# Altium integrated library IR Discrete MOSFET - Half Bridge.IntLib: 36 symbols
Pins are listed as number, name and electrical type; pins without a type are passive.

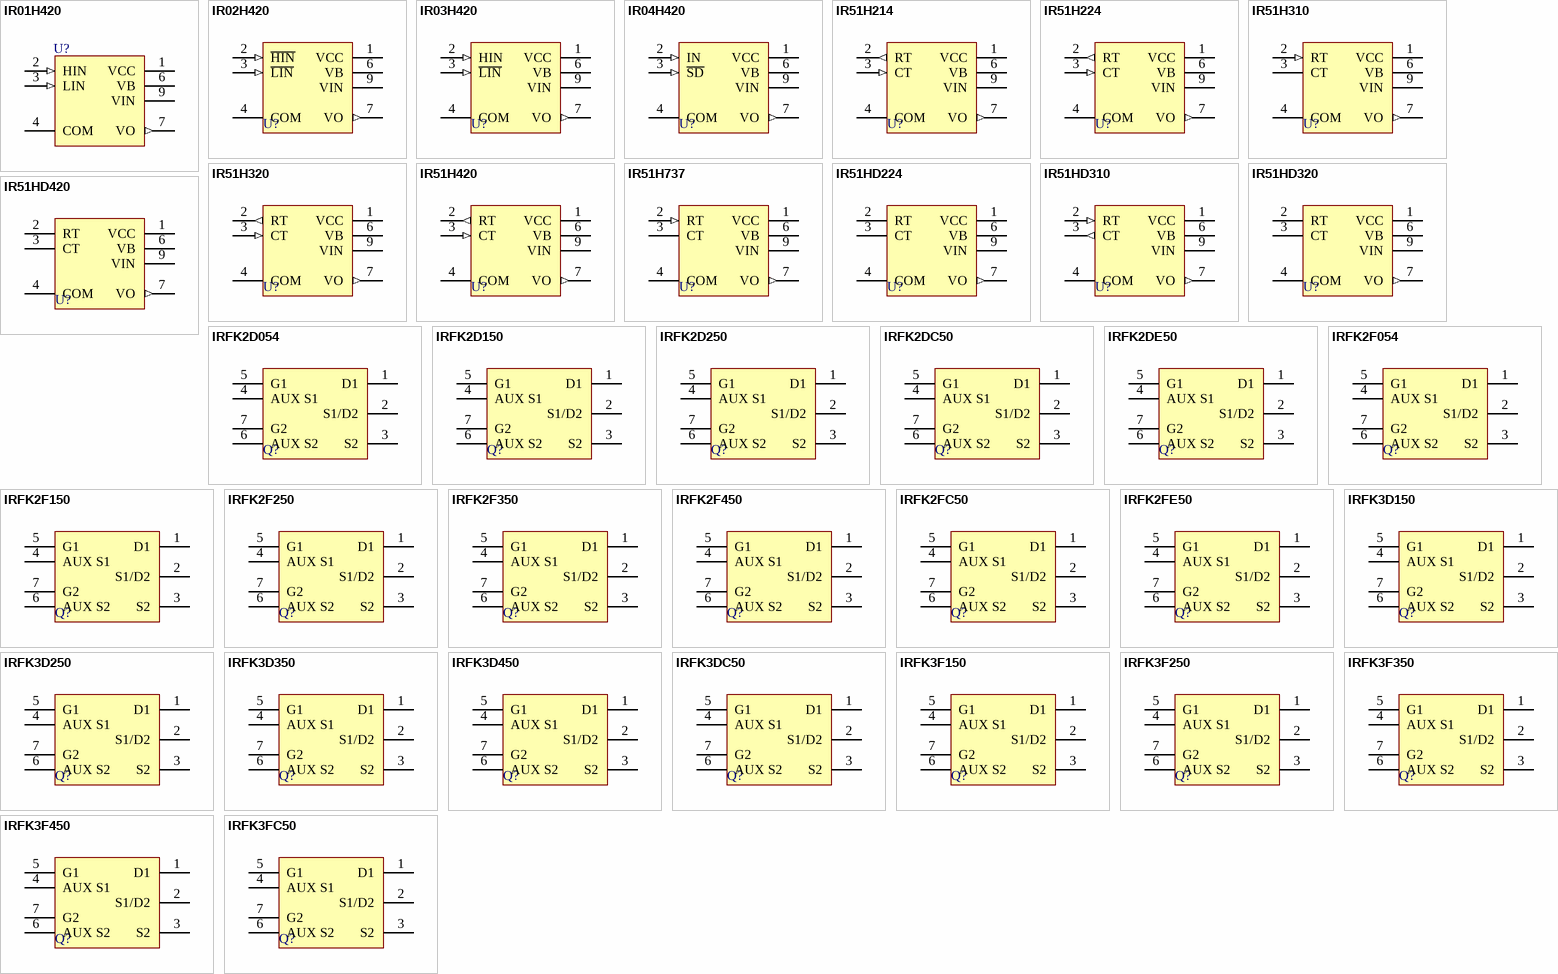
[diagram p0: symbols IR01H420 to IRFK3FC50]

## IR01H420
designator U?
High Voltage Half-Bridge; Note: Pins 5 and 8 do not physically exist.; Published: 8-Jun-2000; LatestRevisionDate: 17-Jul-2002; LatestRevisionNote: Re-released for DXP Platform.; DatasheetVersion: Mar-1996; PackageReference: SIP9; Publisher: Altium Limited; PackageDescription: SIP; 9 Leads (2 Absent); Body 22.9 x 3.4 mm (LxW typ); Pitch 2.54 mm; ComponentLink1Description: Manufacturer Link; ComponentLink1URL: http://www.irf.com/
footprint SIP9 (SIP; 9 Leads (2 Absent); Body 22.9 x 3.4 mm (LxW typ); Pitch 2.54 mm)
pins: 1 VCC (power), 2 HIN (in), 3 LIN (in), 4 COM (power), 6 VB (power), 7 VO (out), 9 VIN (power)

## IR02H420
designator U?
High Voltage Half-Bridge; Note: Pins 5 and 8 do not physically exist.; Published: 8-Jun-2000; LatestRevisionDate: 17-Jul-2002; LatestRevisionNote: Re-released for DXP Platform.; DatasheetVersion: Mar-1996; PackageReference: SIP9; Publisher: Altium Limited; PackageDescription: SIP; 9 Leads (2 Absent); Body 22.9 x 3.4 mm (LxW typ); Pitch 2.54 mm; ComponentLink1Description: Manufacturer Link; ComponentLink1URL: http://www.irf.com/
footprint SIP9 (SIP; 9 Leads (2 Absent); Body 22.9 x 3.4 mm (LxW typ); Pitch 2.54 mm)
pins: 1 VCC (power), 2 ~{HIN} (in), 3 ~{LIN} (in), 4 COM (power), 6 VB (power), 7 VO (out), 9 VIN (power)

## IR03H420
designator U?
High Voltage Half-Bridge; Note: Pins 5 and 8 do not physically exist.; Published: 8-Jun-2000; LatestRevisionDate: 17-Jul-2002; LatestRevisionNote: Re-released for DXP Platform.; DatasheetVersion: Mar-1996; PackageReference: SIP9; Publisher: Altium Limited; PackageDescription: SIP; 9 Leads (2 Absent); Body 22.9 x 3.4 mm (LxW typ); Pitch 2.54 mm; ComponentLink1Description: Manufacturer Link; ComponentLink1URL: http://www.irf.com/
footprint SIP9 (SIP; 9 Leads (2 Absent); Body 22.9 x 3.4 mm (LxW typ); Pitch 2.54 mm)
pins: 1 VCC (power), 2 HIN (in), 3 ~{LIN} (in), 4 COM (power), 6 VB (power), 7 VO (out), 9 VIN (power)

## IR04H420
designator U?
High Voltage Half-Bridge; Note: Pins 5 and 8 do not physically exist.; Published: 8-Jun-2000; LatestRevisionDate: 17-Jul-2002; LatestRevisionNote: Re-released for DXP Platform.; DatasheetVersion: Mar-1996; PackageReference: SIP9; Publisher: Altium Limited; PackageDescription: SIP; 9 Leads (2 Absent); Body 22.9 x 3.4 mm (LxW typ); Pitch 2.54 mm; ComponentLink1Description: Manufacturer Link; ComponentLink1URL: http://www.irf.com/
footprint SIP9 (SIP; 9 Leads (2 Absent); Body 22.9 x 3.4 mm (LxW typ); Pitch 2.54 mm)
pins: 1 VCC (power), 2 IN (in), 3 ~{SD} (in), 4 COM (power), 6 VB (power), 7 VO (out), 9 VIN (power)

## IR51H214
designator U?
Self-Oscillating Half-Bridge; Note: Pins 5 and 8 do not physically exist.; Published: 8-Jun-2000; LatestRevisionDate: 17-Jul-2002; LatestRevisionNote: Re-released for DXP Platform.; DatasheetVersion: Jun-1994; PackageReference: SIP9; Publisher: Altium Limited; PackageDescription: SIP; 9 Leads (2 Absent); Body 22.9 x 3.4 mm (LxW typ); Pitch 2.54 mm; ComponentLink1Description: Manufacturer Link; ComponentLink1URL: http://www.irf.com/
footprint SIP9 (SIP; 9 Leads (2 Absent); Body 22.9 x 3.4 mm (LxW typ); Pitch 2.54 mm)
pins: 1 VCC (power), 2 RT (out), 3 CT (in), 4 COM (power), 6 VB (power), 7 VO (out), 9 VIN (power)

## IR51H224
designator U?
Self-Oscillating Half-Bridge; Note: Pins 5 and 8 do not physically exist.; Published: 8-Jun-2000; LatestRevisionDate: 17-Jul-2002; LatestRevisionNote: Re-released for DXP Platform.; DatasheetVersion: Mar-1999; PackageReference: SIP9; Publisher: Altium Limited; PackageDescription: SIP; 9 Leads (2 Absent); Body 22.9 x 3.4 mm (LxW typ); Pitch 2.54 mm; ComponentLink1Description: Manufacturer Link; ComponentLink1URL: http://www.irf.com/; ComponentLink2Description: Datasheet; ComponentLink2URL: http://www.irf.com/product-info/datasheets/data/ir51h224.pdf
footprint SIP9 (SIP; 9 Leads (2 Absent); Body 22.9 x 3.4 mm (LxW typ); Pitch 2.54 mm)
pins: 1 VCC (power), 2 RT (out), 3 CT (in), 4 COM (power), 6 VB (power), 7 VO (out), 9 VIN (power)

## IR51H310
designator U?
Self-Oscillating Half-Bridge; Note: Pins 5 and 8 do not physically exist.; Published: 8-Jun-2000; LatestRevisionDate: 17-Jul-2002; LatestRevisionNote: Re-released for DXP Platform.; DatasheetVersion: Jun-1994; PackageReference: SIP9; Publisher: Altium Limited; PackageDescription: SIP; 9 Leads (2 Absent); Body 22.9 x 3.4 mm (LxW typ); Pitch 2.54 mm; ComponentLink1Description: Manufacturer Link; ComponentLink1URL: http://www.irf.com/; ComponentLink2Description: Datasheet; ComponentLink2URL: http://www.irf.com/product-info/datasheets/data/ir51h214.pdf
footprint SIP9 (SIP; 9 Leads (2 Absent); Body 22.9 x 3.4 mm (LxW typ); Pitch 2.54 mm)
pins: 1 VCC (power), 2 RT (in), 3 CT (power), 4 COM (power), 6 VB (power), 7 VO (out), 9 VIN (power)

## IR51H320
designator U?
Self-Oscillating Half-Bridge; Note: Pins 5 and 8 do not physically exist.; Published: 8-Jun-2000; LatestRevisionDate: 17-Jul-2002; LatestRevisionNote: Re-released for DXP Platform.; DatasheetVersion: Mar-1999; PackageReference: SIP9; Publisher: Altium Limited; PackageDescription: SIP; 9 Leads (2 Absent); Body 22.9 x 3.4 mm (LxW typ); Pitch 2.54 mm; ComponentLink1Description: Manufacturer Link; ComponentLink1URL: http://www.irf.com/; ComponentLink2Description: Datasheet; ComponentLink2URL: http://www.irf.com/product-info/datasheets/data/ir51h224.pdf
footprint SIP9 (SIP; 9 Leads (2 Absent); Body 22.9 x 3.4 mm (LxW typ); Pitch 2.54 mm)
pins: 1 VCC (power), 2 RT (out), 3 CT (in), 4 COM (power), 6 VB (power), 7 VO (out), 9 VIN (power)

## IR51H420
designator U?
Self-Oscillating Half-Bridge; Note: Pins 5 and 8 do not physically exist.; Published: 8-Jun-2000; LatestRevisionDate: 17-Jul-2002; LatestRevisionNote: Re-released for DXP Platform.; DatasheetVersion: Mar-1999; PackageReference: SIP9; Publisher: Altium Limited; PackageDescription: SIP; 9 Leads (2 Absent); Body 22.9 x 3.4 mm (LxW typ); Pitch 2.54 mm; ComponentLink1Description: Manufacturer Link; ComponentLink1URL: http://www.irf.com/; ComponentLink2Description: Datasheet; ComponentLink2URL: http://www.irf.com/product-info/datasheets/data/ir51h224.pdf
footprint SIP9 (SIP; 9 Leads (2 Absent); Body 22.9 x 3.4 mm (LxW typ); Pitch 2.54 mm)
pins: 1 VCC (power), 2 RT (out), 3 CT (in), 4 COM (power), 6 VB (power), 7 VO (out), 9 VIN (power)

## IR51H737
designator U?
Self-Oscillating Half-Bridge; Note: Pins 5 and 8 do not physically exist.; Published: 8-Jun-2000; LatestRevisionDate: 17-Jul-2002; LatestRevisionNote: Re-released for DXP Platform.; DatasheetVersion: Aug-1995; PackageReference: SIP9; Publisher: Altium Limited; PackageDescription: SIP; 9 Leads (2 Absent); Body 22.9 x 3.4 mm (LxW typ); Pitch 2.54 mm; ComponentLink1Description: Manufacturer Link; ComponentLink1URL: http://www.irf.com/
footprint SIP9 (SIP; 9 Leads (2 Absent); Body 22.9 x 3.4 mm (LxW typ); Pitch 2.54 mm)
pins: 1 VCC (power), 2 RT (in), 3 CT (power), 4 COM (power), 6 VB (power), 7 VO (out), 9 VIN (power)

## IR51HD224
designator U?
Self-Oscillating Half-Bridge; Note: Pins 5 and 8 do not physically exist.; Published: 8-Jun-2000; LatestRevisionDate: 17-Jul-2002; LatestRevisionNote: Re-released for DXP Platform.; DatasheetVersion: Mar-1999; PackageReference: SIP9; Publisher: Altium Limited; PackageDescription: SIP; 9 Leads (2 Absent); Body 22.9 x 3.4 mm (LxW typ); Pitch 2.54 mm; ComponentLink1Description: Manufacturer Link; ComponentLink1URL: http://www.irf.com/; ComponentLink2Description: Datasheet; ComponentLink2URL: http://www.irf.com/product-info/datasheets/data/ir51h224.pdf
footprint SIP9 (SIP; 9 Leads (2 Absent); Body 22.9 x 3.4 mm (LxW typ); Pitch 2.54 mm)
pins: 1 VCC (power), 2 RT, 3 CT, 4 COM (power), 6 VB (power), 7 VO (out), 9 VIN (power)

## IR51HD310
designator U?
Self-Oscillating Half-Bridge; Note: Pins 5 and 8 do not physically exist.; Published: 8-Jun-2000; LatestRevisionDate: 17-Jul-2002; LatestRevisionNote: Re-released for DXP Platform.; DatasheetVersion: PD-6.060D; PackageReference: SIP9; Publisher: Altium Limited; PackageDescription: SIP; 9 Leads (2 Absent); Body 22.9 x 3.4 mm (LxW typ); Pitch 2.54 mm; ComponentLink1Description: Manufacturer Link; ComponentLink1URL: http://www.irf.com/
footprint SIP9 (SIP; 9 Leads (2 Absent); Body 22.9 x 3.4 mm (LxW typ); Pitch 2.54 mm)
pins: 1 VCC (power), 2 RT (in), 3 CT (out), 4 COM (power), 6 VB (power), 7 VO (out), 9 VIN (power)

## IR51HD320
designator U?
Self-Oscillating Half-Bridge; Note: Pins 5 and 8 do not physically exist.; Published: 8-Jun-2000; LatestRevisionDate: 17-Jul-2002; LatestRevisionNote: Re-released for DXP Platform.; DatasheetVersion: Mar-1999; PackageReference: SIP9; Publisher: Altium Limited; PackageDescription: SIP; 9 Leads (2 Absent); Body 22.9 x 3.4 mm (LxW typ); Pitch 2.54 mm; ComponentLink1Description: Manufacturer Link; ComponentLink1URL: http://www.irf.com/; ComponentLink2Description: Datasheet; ComponentLink2URL: http://www.irf.com/product-info/datasheets/data/ir51h224.pdf
footprint SIP9 (SIP; 9 Leads (2 Absent); Body 22.9 x 3.4 mm (LxW typ); Pitch 2.54 mm)
pins: 1 VCC (power), 2 RT, 3 CT, 4 COM (power), 6 VB (power), 7 VO (out), 9 VIN

## IR51HD420
designator U?
Self-Oscillating Half-Bridge; Note: Pins 5 and 8 do not physically exist.; Published: 8-Jun-2000; LatestRevisionDate: 17-Jul-2002; LatestRevisionNote: Re-released for DXP Platform.; DatasheetVersion: Mar-1999; PackageReference: SIP9; Publisher: Altium Limited; PackageDescription: SIP; 9 Leads (2 Absent); Body 22.9 x 3.4 mm (LxW typ); Pitch 2.54 mm; ComponentLink1Description: Manufacturer Link; ComponentLink1URL: http://www.irf.com/; ComponentLink2Description: Datasheet; ComponentLink2URL: http://www.irf.com/product-info/datasheets/data/ir51h224.pdf
footprint SIP9 (SIP; 9 Leads (2 Absent); Body 22.9 x 3.4 mm (LxW typ); Pitch 2.54 mm)
pins: 1 VCC (power), 2 RT, 3 CT, 4 COM (power), 6 VB (power), 7 VO (out), 9 VIN

## IRFK2D054
designator Q?
Isolated Base N-Channel Power HEX-Pak Assembly - Half Bridge Configuration; Published: 8-Jun-2000; LatestRevisionDate: 17-Jul-2002; LatestRevisionNote: Re-released for DXP Platform.; DatasheetVersion: E2790; PackageReference: TO-240_7; Publisher: Altium Limited; PackageDescription: Power Module/TO-240-AA; 3 Screw & 4 Quick-Connect Terminals; Body 92 x 20 x 37 mm (LxWxH); ComponentLink1Description: Manufacturer Link; ComponentLink1URL: http://www.irf.com/
footprint TO-240_7 (Power Module/TO-240-AA; 3 Screw & 4 Quick-Connect Terminals; Body 92 x 20 x 37 mm (LxWxH))
simulation model IRFK2D054 (SUBCKT)
pins: 1 D1, 2 S1/D2, 3 S2, 4 AUX S1, 5 G1, 6 AUX S2, 7 G2

## IRFK2D150
designator Q?
Isolated Base N-Channel Power HEX-Pak Assembly - Half Bridge Configuration; Published: 8-Jun-2000; LatestRevisionDate: 17-Jul-2002; LatestRevisionNote: Re-released for DXP Platform.; DatasheetVersion: E2791; PackageReference: TO-240_7; Publisher: Altium Limited; PackageDescription: Power Module/TO-240-AA; 3 Screw & 4 Quick-Connect Terminals; Body 92 x 20 x 37 mm (LxWxH); ComponentLink1Description: Manufacturer Link; ComponentLink1URL: http://www.irf.com/
footprint TO-240_7 (Power Module/TO-240-AA; 3 Screw & 4 Quick-Connect Terminals; Body 92 x 20 x 37 mm (LxWxH))
simulation model IRFK2D150 (SUBCKT)
pins: 1 D1, 2 S1/D2, 3 S2, 4 AUX S1, 5 G1, 6 AUX S2, 7 G2

## IRFK2D250
designator Q?
Isolated Base N-Channel Power HEX-Pak Assembly - Half Bridge Configuration; Published: 8-Jun-2000; LatestRevisionDate: 17-Jul-2002; LatestRevisionNote: Re-released for DXP Platform.; DatasheetVersion: E2792; PackageReference: TO-240_7; Publisher: Altium Limited; PackageDescription: Power Module/TO-240-AA; 3 Screw & 4 Quick-Connect Terminals; Body 92 x 20 x 37 mm (LxWxH); ComponentLink1Description: Manufacturer Link; ComponentLink1URL: http://www.irf.com/
footprint TO-240_7 (Power Module/TO-240-AA; 3 Screw & 4 Quick-Connect Terminals; Body 92 x 20 x 37 mm (LxWxH))
simulation model IRFK2D250 (SUBCKT)
pins: 1 D1, 2 S1/D2, 3 S2, 4 AUX S1, 5 G1, 6 AUX S2, 7 G2

## IRFK2DC50
designator Q?
Isolated Base N-Channel Power HEX-Pak Assembly - Half Bridge Configuration; Published: 8-Jun-2000; LatestRevisionDate: 17-Jul-2002; LatestRevisionNote: Re-released for DXP Platform.; DatasheetVersion: E2795; PackageReference: TO-240_7; Publisher: Altium Limited; PackageDescription: Power Module/TO-240-AA; 3 Screw & 4 Quick-Connect Terminals; Body 92 x 20 x 37 mm (LxWxH); ComponentLink1Description: Manufacturer Link; ComponentLink1URL: http://www.irf.com/
footprint TO-240_7 (Power Module/TO-240-AA; 3 Screw & 4 Quick-Connect Terminals; Body 92 x 20 x 37 mm (LxWxH))
simulation model IRFK2DC50 (SUBCKT)
pins: 1 D1, 2 S1/D2, 3 S2, 4 AUX S1, 5 G1, 6 AUX S2, 7 G2

## IRFK2DE50
designator Q?
Isolated Base N-Channel Power HEX-Pak Assembly - Half Bridge Configuration; Published: 8-Jun-2000; LatestRevisionDate: 17-Jul-2002; LatestRevisionNote: Re-released for DXP Platform.; DatasheetVersion: E2796; PackageReference: TO-240_7; Publisher: Altium Limited; PackageDescription: Power Module/TO-240-AA; 3 Screw & 4 Quick-Connect Terminals; Body 92 x 20 x 37 mm (LxWxH); ComponentLink1Description: Manufacturer Link; ComponentLink1URL: http://www.irf.com/
footprint TO-240_7 (Power Module/TO-240-AA; 3 Screw & 4 Quick-Connect Terminals; Body 92 x 20 x 37 mm (LxWxH))
simulation model IRFK2DE50 (SUBCKT)
pins: 1 D1, 2 S1/D2, 3 S2, 4 AUX S1, 5 G1, 6 AUX S2, 7 G2

## IRFK2F054
designator Q?
Isolated Base N-Channel Power HEX-Pak Assembly - Half Bridge Configuration; Published: 8-Jun-2000; LatestRevisionDate: 17-Jul-2002; LatestRevisionNote: Re-released for DXP Platform.; DatasheetVersion: E2790; PackageReference: TO-240_7; Publisher: Altium Limited; PackageDescription: Power Module/TO-240-AA; 3 Screw & 4 Quick-Connect Terminals; Body 92 x 20 x 37 mm (LxWxH); ComponentLink1Description: Manufacturer Link; ComponentLink1URL: http://www.irf.com/
footprint TO-240_7 (Power Module/TO-240-AA; 3 Screw & 4 Quick-Connect Terminals; Body 92 x 20 x 37 mm (LxWxH))
simulation model IRFK2F054 (SUBCKT)
pins: 1 D1, 2 S1/D2, 3 S2, 4 AUX S1, 5 G1, 6 AUX S2, 7 G2

## IRFK2F150
designator Q?
Isolated Base N-Channel Power HEX-Pak Assembly - Half Bridge Configuration; Published: 8-Jun-2000; LatestRevisionDate: 17-Jul-2002; LatestRevisionNote: Re-released for DXP Platform.; DatasheetVersion: E2791; PackageReference: TO-240_7; Publisher: Altium Limited; PackageDescription: Power Module/TO-240-AA; 3 Screw & 4 Quick-Connect Terminals; Body 92 x 20 x 37 mm (LxWxH); ComponentLink1Description: Manufacturer Link; ComponentLink1URL: http://www.irf.com/
footprint TO-240_7 (Power Module/TO-240-AA; 3 Screw & 4 Quick-Connect Terminals; Body 92 x 20 x 37 mm (LxWxH))
simulation model IRFK2F150 (SUBCKT)
pins: 1 D1, 2 S1/D2, 3 S2, 4 AUX S1, 5 G1, 6 AUX S2, 7 G2

## IRFK2F250
designator Q?
Isolated Base N-Channel Power HEX-Pak Assembly - Half Bridge Configuration; Published: 8-Jun-2000; LatestRevisionDate: 17-Jul-2002; LatestRevisionNote: Re-released for DXP Platform.; DatasheetVersion: E2792; PackageReference: TO-240_7; Publisher: Altium Limited; PackageDescription: Power Module/TO-240-AA; 3 Screw & 4 Quick-Connect Terminals; Body 92 x 20 x 37 mm (LxWxH); ComponentLink1Description: Manufacturer Link; ComponentLink1URL: http://www.irf.com/
footprint TO-240_7 (Power Module/TO-240-AA; 3 Screw & 4 Quick-Connect Terminals; Body 92 x 20 x 37 mm (LxWxH))
simulation model IRFK2F250 (SUBCKT)
pins: 1 D1, 2 S1/D2, 3 S2, 4 AUX S1, 5 G1, 6 AUX S2, 7 G2

## IRFK2F350
designator Q?
Isolated Base N-Channel Power HEX-Pak Assembly - Half Bridge Configuration; Published: 8-Jun-2000; LatestRevisionDate: 17-Jul-2002; LatestRevisionNote: Re-released for DXP Platform.; DatasheetVersion: E2793; PackageReference: TO-240_7; Publisher: Altium Limited; PackageDescription: Power Module/TO-240-AA; 3 Screw & 4 Quick-Connect Terminals; Body 92 x 20 x 37 mm (LxWxH); ComponentLink1Description: Manufacturer Link; ComponentLink1URL: http://www.irf.com/
footprint TO-240_7 (Power Module/TO-240-AA; 3 Screw & 4 Quick-Connect Terminals; Body 92 x 20 x 37 mm (LxWxH))
simulation model IRFK2F350 (SUBCKT)
pins: 1 D1, 2 S1/D2, 3 S2, 4 AUX S1, 5 G1, 6 AUX S2, 7 G2

## IRFK2F450
designator Q?
Isolated Base N-Channel Power HEX-Pak Assembly - Half Bridge Configuration; Published: 8-Jun-2000; LatestRevisionDate: 17-Jul-2002; LatestRevisionNote: Re-released for DXP Platform.; DatasheetVersion: E2794; PackageReference: TO-240_7; Publisher: Altium Limited; PackageDescription: Power Module/TO-240-AA; 3 Screw & 4 Quick-Connect Terminals; Body 92 x 20 x 37 mm (LxWxH); ComponentLink1Description: Manufacturer Link; ComponentLink1URL: http://www.irf.com/; ComponentLink2Description: Datasheet; ComponentLink2URL: http://www.irf.com/product-info/datasheets/data/irfk2d450.pdf
footprint TO-240_7 (Power Module/TO-240-AA; 3 Screw & 4 Quick-Connect Terminals; Body 92 x 20 x 37 mm (LxWxH))
simulation model IRFK2F450 (SUBCKT)
pins: 1 D1, 2 S1/D2, 3 S2, 4 AUX S1, 5 G1, 6 AUX S2, 7 G2

## IRFK2FC50
designator Q?
Isolated Base N-Channel Power HEX-Pak Assembly - Half Bridge Configuration; Published: 8-Jun-2000; LatestRevisionDate: 17-Jul-2002; LatestRevisionNote: Re-released for DXP Platform.; DatasheetVersion: E2795; PackageReference: TO-240_7; Publisher: Altium Limited; PackageDescription: Power Module/TO-240-AA; 3 Screw & 4 Quick-Connect Terminals; Body 92 x 20 x 37 mm (LxWxH); ComponentLink1Description: Manufacturer Link; ComponentLink1URL: http://www.irf.com/; ComponentLink2Description: Datasheet; ComponentLink2URL: http://www.irf.com/product-info/datasheets/data/irfk2dc50.pdf
footprint TO-240_7 (Power Module/TO-240-AA; 3 Screw & 4 Quick-Connect Terminals; Body 92 x 20 x 37 mm (LxWxH))
simulation model IRFK2FC50 (SUBCKT)
pins: 1 D1, 2 S1/D2, 3 S2, 4 AUX S1, 5 G1, 6 AUX S2, 7 G2

## IRFK2FE50
designator Q?
Isolated Base N-Channel Power HEX-Pak Assembly - Half Bridge Configuration; Published: 8-Jun-2000; LatestRevisionDate: 17-Jul-2002; LatestRevisionNote: Re-released for DXP Platform.; DatasheetVersion: E2796; PackageReference: TO-240_7; Publisher: Altium Limited; PackageDescription: Power Module/TO-240-AA; 3 Screw & 4 Quick-Connect Terminals; Body 92 x 20 x 37 mm (LxWxH); ComponentLink1Description: Manufacturer Link; ComponentLink1URL: http://www.irf.com/; ComponentLink2Description: Datasheet; ComponentLink2URL: http://www.irf.com/product-info/datasheets/data/irfk2de50.pdf
footprint TO-240_7 (Power Module/TO-240-AA; 3 Screw & 4 Quick-Connect Terminals; Body 92 x 20 x 37 mm (LxWxH))
simulation model IRFK2FE50 (SUBCKT)
pins: 1 D1, 2 S1/D2, 3 S2, 4 AUX S1, 5 G1, 6 AUX S2, 7 G2

## IRFK3D150
designator Q?
Isolated Base N-Channel Power HEX-Pak Assembly - Half Bridge Configuration; Published: 8-Jun-2000; LatestRevisionDate: 17-Jul-2002; LatestRevisionNote: Re-released for DXP Platform.; DatasheetVersion: E2797; PackageReference: TO-240_7; Publisher: Altium Limited; PackageDescription: Power Module/TO-240-AA; 3 Screw & 4 Quick-Connect Terminals; Body 92 x 20 x 37 mm (LxWxH); ComponentLink1Description: Manufacturer Link; ComponentLink1URL: http://www.irf.com/; ComponentLink2Description: Datasheet; ComponentLink2URL: http://www.irf.com/product-info/datasheets/data/irfk3d150.pdf
footprint TO-240_7 (Power Module/TO-240-AA; 3 Screw & 4 Quick-Connect Terminals; Body 92 x 20 x 37 mm (LxWxH))
simulation model IRFK3D150 (SUBCKT)
pins: 1 D1, 2 S1/D2, 3 S2, 4 AUX S1, 5 G1, 6 AUX S2, 7 G2

## IRFK3D250
designator Q?
Isolated Base N-Channel Power HEX-Pak Assembly - Half Bridge Configuration; Published: 8-Jun-2000; LatestRevisionDate: 17-Jul-2002; LatestRevisionNote: Re-released for DXP Platform.; DatasheetVersion: E2798; PackageReference: TO-240_7; Publisher: Altium Limited; PackageDescription: Power Module/TO-240-AA; 3 Screw & 4 Quick-Connect Terminals; Body 92 x 20 x 37 mm (LxWxH); ComponentLink1Description: Manufacturer Link; ComponentLink1URL: http://www.irf.com/; ComponentLink2Description: Datasheet; ComponentLink2URL: http://www.irf.com/product-info/datasheets/data/irfk3d250.pdf
footprint TO-240_7 (Power Module/TO-240-AA; 3 Screw & 4 Quick-Connect Terminals; Body 92 x 20 x 37 mm (LxWxH))
simulation model IRFK3D250 (SUBCKT)
pins: 1 D1, 2 S1/D2, 3 S2, 4 AUX S1, 5 G1, 6 AUX S2, 7 G2

## IRFK3D350
designator Q?
Isolated Base N-Channel Power HEX-Pak Assembly - Half Bridge Configuration; Published: 8-Jun-2000; LatestRevisionDate: 17-Jul-2002; LatestRevisionNote: Re-released for DXP Platform.; DatasheetVersion: E2799; PackageReference: TO-240_7; Publisher: Altium Limited; PackageDescription: Power Module/TO-240-AA; 3 Screw & 4 Quick-Connect Terminals; Body 92 x 20 x 37 mm (LxWxH); ComponentLink1Description: Manufacturer Link; ComponentLink1URL: http://www.irf.com/; ComponentLink2Description: Datasheet; ComponentLink2URL: http://www.irf.com/product-info/datasheets/data/irfk3d350.pdf
footprint TO-240_7 (Power Module/TO-240-AA; 3 Screw & 4 Quick-Connect Terminals; Body 92 x 20 x 37 mm (LxWxH))
simulation model IRFK3D350 (SUBCKT)
pins: 1 D1, 2 S1/D2, 3 S2, 4 AUX S1, 5 G1, 6 AUX S2, 7 G2

## IRFK3D450
designator Q?
Isolated Base N-Channel Power HEX-Pak Assembly - Half Bridge Configuration; Published: 8-Jun-2000; LatestRevisionDate: 17-Jul-2002; LatestRevisionNote: Re-released for DXP Platform.; DatasheetVersion: E27100; PackageReference: TO-240_7; Publisher: Altium Limited; PackageDescription: Power Module/TO-240-AA; 3 Screw & 4 Quick-Connect Terminals; Body 92 x 20 x 37 mm (LxWxH); ComponentLink1Description: Manufacturer Link; ComponentLink1URL: http://www.irf.com/; ComponentLink2Description: Datasheet; ComponentLink2URL: http://www.irf.com/product-info/datasheets/data/irfk3d450.pdf
footprint TO-240_7 (Power Module/TO-240-AA; 3 Screw & 4 Quick-Connect Terminals; Body 92 x 20 x 37 mm (LxWxH))
simulation model IRFK3D450 (SUBCKT)
pins: 1 D1, 2 S1/D2, 3 S2, 4 AUX S1, 5 G1, 6 AUX S2, 7 G2

## IRFK3DC50
designator Q?
Isolated Base N-Channel Power HEX-Pak Assembly - Half Bridge Configuration; Published: 8-Jun-2000; LatestRevisionDate: 17-Jul-2002; LatestRevisionNote: Re-released for DXP Platform.; DatasheetVersion: E27101; PackageReference: TO-240_7; Publisher: Altium Limited; PackageDescription: Power Module/TO-240-AA; 3 Screw & 4 Quick-Connect Terminals; Body 92 x 20 x 37 mm (LxWxH); ComponentLink1Description: Manufacturer Link; ComponentLink1URL: http://www.irf.com/; ComponentLink2Description: Datasheet; ComponentLink2URL: http://www.irf.com/product-info/datasheets/data/irfk3dc50.pdf
footprint TO-240_7 (Power Module/TO-240-AA; 3 Screw & 4 Quick-Connect Terminals; Body 92 x 20 x 37 mm (LxWxH))
simulation model IRFK3DC50 (SUBCKT)
pins: 1 D1, 2 S1/D2, 3 S2, 4 AUX S1, 5 G1, 6 AUX S2, 7 G2

## IRFK3F150
designator Q?
Isolated Base N-Channel Power HEX-Pak Assembly - Half Bridge Configuration; Published: 8-Jun-2000; LatestRevisionDate: 17-Jul-2002; LatestRevisionNote: Re-released for DXP Platform.; DatasheetVersion: E2797; PackageReference: TO-240_7; Publisher: Altium Limited; PackageDescription: Power Module/TO-240-AA; 3 Screw & 4 Quick-Connect Terminals; Body 92 x 20 x 37 mm (LxWxH); ComponentLink1Description: Manufacturer Link; ComponentLink1URL: http://www.irf.com/
footprint TO-240_7 (Power Module/TO-240-AA; 3 Screw & 4 Quick-Connect Terminals; Body 92 x 20 x 37 mm (LxWxH))
simulation model IRFK3F150 (SUBCKT)
pins: 1 D1, 2 S1/D2, 3 S2, 4 AUX S1, 5 G1, 6 AUX S2, 7 G2

## IRFK3F250
designator Q?
Isolated Base N-Channel Power HEX-Pak Assembly - Half Bridge Configuration; Published: 8-Jun-2000; LatestRevisionDate: 17-Jul-2002; LatestRevisionNote: Re-released for DXP Platform.; DatasheetVersion: E2798; PackageReference: TO-240_7; Publisher: Altium Limited; PackageDescription: Power Module/TO-240-AA; 3 Screw & 4 Quick-Connect Terminals; Body 92 x 20 x 37 mm (LxWxH); ComponentLink1Description: Manufacturer Link; ComponentLink1URL: http://www.irf.com/
footprint TO-240_7 (Power Module/TO-240-AA; 3 Screw & 4 Quick-Connect Terminals; Body 92 x 20 x 37 mm (LxWxH))
simulation model IRFK3F250 (SUBCKT)
pins: 1 D1, 2 S1/D2, 3 S2, 4 AUX S1, 5 G1, 6 AUX S2, 7 G2

## IRFK3F350
designator Q?
Isolated Base N-Channel Power HEX-Pak Assembly - Half Bridge Configuration; Published: 8-Jun-2000; LatestRevisionDate: 17-Jul-2002; LatestRevisionNote: Re-released for DXP Platform.; DatasheetVersion: E2799; PackageReference: TO-240_7; Publisher: Altium Limited; PackageDescription: Power Module/TO-240-AA; 3 Screw & 4 Quick-Connect Terminals; Body 92 x 20 x 37 mm (LxWxH); ComponentLink1Description: Manufacturer Link; ComponentLink1URL: http://www.irf.com/
footprint TO-240_7 (Power Module/TO-240-AA; 3 Screw & 4 Quick-Connect Terminals; Body 92 x 20 x 37 mm (LxWxH))
simulation model IRFK3F350 (SUBCKT)
pins: 1 D1, 2 S1/D2, 3 S2, 4 AUX S1, 5 G1, 6 AUX S2, 7 G2

## IRFK3F450
designator Q?
Isolated Base N-Channel Power HEX-Pak Assembly - Half Bridge Configuration; Published: 8-Jun-2000; LatestRevisionDate: 17-Jul-2002; LatestRevisionNote: Re-released for DXP Platform.; DatasheetVersion: E27100; PackageReference: TO-240_7; Publisher: Altium Limited; PackageDescription: Power Module/TO-240-AA; 3 Screw & 4 Quick-Connect Terminals; Body 92 x 20 x 37 mm (LxWxH); ComponentLink1Description: Manufacturer Link; ComponentLink1URL: http://www.irf.com/
footprint TO-240_7 (Power Module/TO-240-AA; 3 Screw & 4 Quick-Connect Terminals; Body 92 x 20 x 37 mm (LxWxH))
simulation model IRFK3F450 (SUBCKT)
pins: 1 D1, 2 S1/D2, 3 S2, 4 AUX S1, 5 G1, 6 AUX S2, 7 G2

## IRFK3FC50
designator Q?
Isolated Base N-Channel Power HEX-Pak Assembly - Half Bridge Configuration; Published: 8-Jun-2000; LatestRevisionDate: 17-Jul-2002; LatestRevisionNote: Re-released for DXP Platform.; DatasheetVersion: E27101; PackageReference: TO-240_7; Publisher: Altium Limited; PackageDescription: Power Module/TO-240-AA; 3 Screw & 4 Quick-Connect Terminals; Body 92 x 20 x 37 mm (LxWxH); ComponentLink1Description: Manufacturer Link; ComponentLink1URL: http://www.irf.com/
footprint TO-240_7 (Power Module/TO-240-AA; 3 Screw & 4 Quick-Connect Terminals; Body 92 x 20 x 37 mm (LxWxH))
simulation model IRFK3FC50 (SUBCKT)
pins: 1 D1, 2 S1/D2, 3 S2, 4 AUX S1, 5 G1, 6 AUX S2, 7 G2